# Altium footprint library WQFN_RTW.PcbLib: 1 footprints
Each footprint in its own frame and in the unit in brackets; x right, y up, seen from the top. Pads: shape width x height; smd on the part's side, far side on the other; paste and mask are expansions set on the pad; w line width, h text height; cw(c..) or ccw(c..) is an arc to the next point about the centre after c.
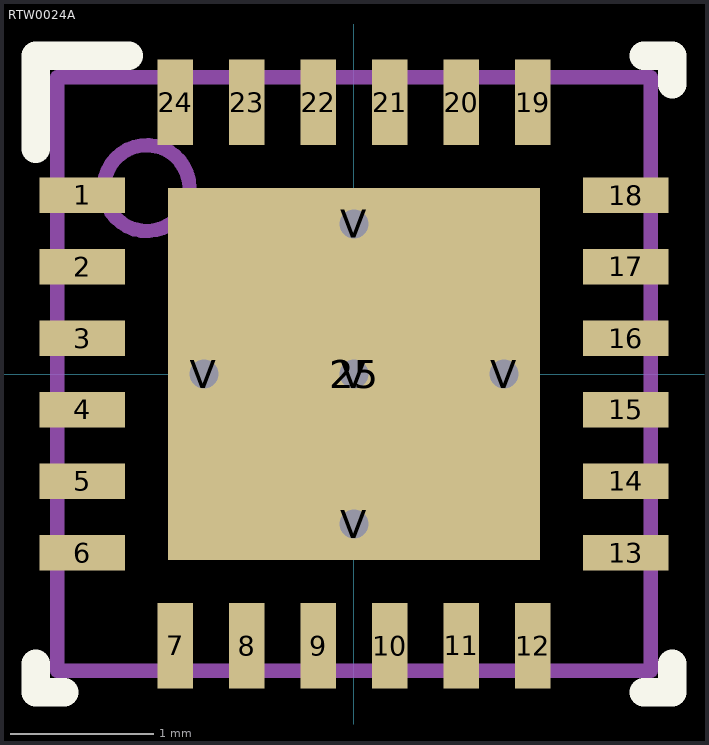
[diagram p0: the footprint, top view; thin cyan lines are the x and y axes]

## RTW0024A [mm]
pads (30):
  rect 0.6x0.25 smd paste+0 mask+0.051: 1(-1.9,1.25) 2(-1.9,0.75) 3(-1.9,0.25) 4(-1.9,-0.25) 5(-1.9,-0.75) 6(-1.9,-1.25) 13(1.9,-1.25) 14(1.9,-0.75) 15(1.9,-0.25) 16(1.9,0.25) 17(1.9,0.75) 18(1.9,1.25)
  rect 0.25x0.6 smd paste+0 mask+0.051: 7(-1.25,-1.9) 8(-0.75,-1.9) 9(-0.25,-1.9) 10(0.25,-1.9) 11(0.75,-1.9) 12(1.25,-1.9) 19(1.25,1.9) 20(0.75,1.9) 21(0.25,1.9) 22(-0.25,1.9) 23(-0.75,1.9) 24(-1.25,1.9)
  rect 2.6x2.6 smd paste-1.287 mask+0.051: 25(0,0)
  round 0.5 hole 0.203 mask+0.051: V(-1.05,0) V(0,-1.05) V(0,0) V(0,1.05) V(1.05,0)
Top Overlay:
  lines w0.2: -2.225,-2.025 -2.225,-2.225 -2.025,-2.225 ; -2.225,1.575 -2.225,2.225 -1.575,2.225 ; 2.025,-2.225 2.225,-2.225 2.225,-2.025 ; 2.025,2.225 2.225,2.225 2.225,2.025
Top Paste:
  region: 0.1,1.248 0.1,0.1 1.248,0.1 1.248,1.248
  region: -0.1,0.1 -0.1,1.248 -1.248,1.248 -1.248,0.1
  region: -0.1,-1.248 -0.1,-0.1 -1.248,-0.1 -1.248,-1.248
  region: 0.1,-0.1 0.1,-1.248 1.248,-1.248 1.248,-0.1
Mechanical 13:
  circle w0.1: c-1.45,1.3 r0.3
  lines w0.1: -2.075,-2.075 2.075,-2.075 2.075,2.075 -2.075,2.075 -2.075,-2.075
  text ".Designator" at -1.854,-1.143 h1.27
3D body "WQFN_RTW24.stp": height 0.8, standoff 0, extent -2,-2 2,2